# Altium footprint library 2021-06-29_10-04-25.PcbLib: 3 footprints
Each footprint in its own frame and in the unit in brackets; x right, y up, seen from the top. Pads: shape width x height; smd on the part's side, far side on the other; paste and mask are expansions set on the pad; w line width, h text height; cw(c..) or ccw(c..) is an arc to the next point about the centre after c.
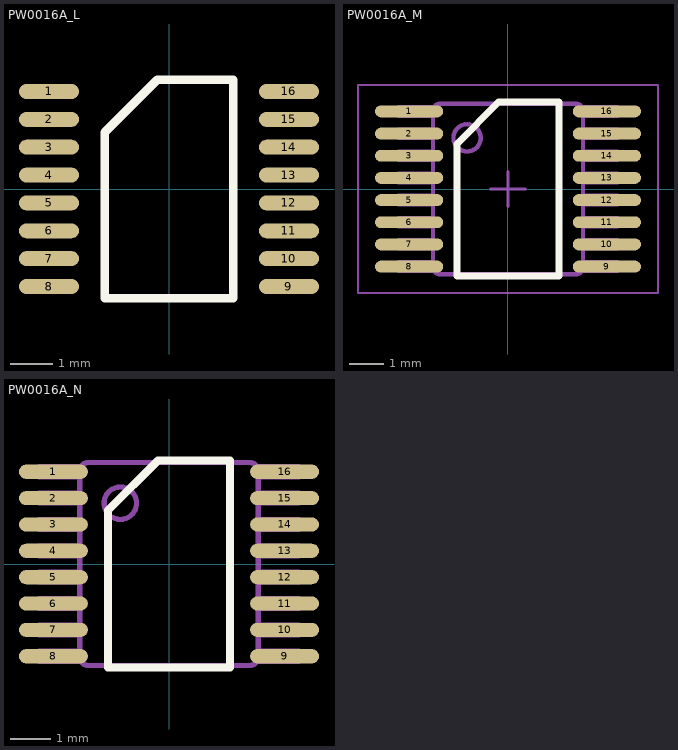
[diagram p0: the footprints below, top view; thin cyan lines are the x and y axes]

## PW0016A_L [mm]
pads (16):
  oval 1.4x0.35 smd paste-0.102 mask+0.051: 1(-2.8,2.275) 2(-2.8,1.625) 3(-2.8,0.975) 4(-2.8,0.325) 5(-2.8,-0.325) 6(-2.8,-0.975) 7(-2.8,-1.625) 8(-2.8,-2.275) 9(2.8,-2.275) 10(2.8,-1.625) 11(2.8,-0.975) 12(2.8,-0.325) 13(2.8,0.325) 14(2.8,0.975) 15(2.8,1.625) 16(2.8,2.275)
Top Overlay:
  lines w0.2: -1.5,-2.55 1.5,-2.55 1.5,2.55 -0.275,2.55 -1.5,1.325 -1.5,-2.55
3D body: height 0.25, standoff 0, extent 0,0 0.254,0.254

## PW0016A_M [mm]
pads (16):
  oval 2x0.35 smd paste-0.102 mask+0.051: 1(-2.9,2.275) 2(-2.9,1.625) 3(-2.9,0.975) 4(-2.9,0.325) 5(-2.9,-0.325) 6(-2.9,-0.975) 7(-2.9,-1.625) 8(-2.9,-2.275) 9(2.9,-2.275) 10(2.9,-1.625) 11(2.9,-0.975) 12(2.9,-0.325) 13(2.9,0.325) 14(2.9,0.975) 15(2.9,1.625) 16(2.9,2.275)
Top Overlay:
  lines w0.2: -1.5,-2.55 1.5,-2.55 1.5,2.55 -0.275,2.55 -1.5,1.325 -1.5,-2.55
Mechanical 13:
  drawing of 202 lines, arcs and shapes, not listed
  text ".Designator" at -1.854,-1.143 h1.27
Mechanical 15:
  lines w0.05: -4.4,-3.05 4.4,-3.05 4.4,3.05 -4.4,3.05 -4.4,-3.05
  lines w0.1: -0.5,0 0.5,0 ; 0,-0.5 0,0.5
3D body: height 0.25, standoff 0, extent 0,0 0.254,0.254

## PW0016A_N [mm]
pads (16):
  oval 1.7x0.35 smd paste-0.102 mask+0.051: 1(-2.85,2.275) 2(-2.85,1.625) 3(-2.85,0.975) 4(-2.85,0.325) 5(-2.85,-0.325) 6(-2.85,-0.975) 7(-2.85,-1.625) 8(-2.85,-2.275) 9(2.85,-2.275) 10(2.85,-1.625) 11(2.85,-0.975) 12(2.85,-0.325) 13(2.85,0.325) 14(2.85,0.975) 15(2.85,1.625) 16(2.85,2.275)
Top Overlay:
  lines w0.2: -1.5,-2.55 -1.5,1.325 -0.275,2.55 1.5,2.55 1.5,-2.55 -1.5,-2.55
Mechanical 13:
  drawing of 202 lines, arcs and shapes, not listed
3D body: height 0.25, standoff 0, extent 0,0 0.254,0.254